# Altium integrated library PassiveComponents.IntLib: 18 symbols
Pins are listed as number, name and electrical type; pins without a type are passive.

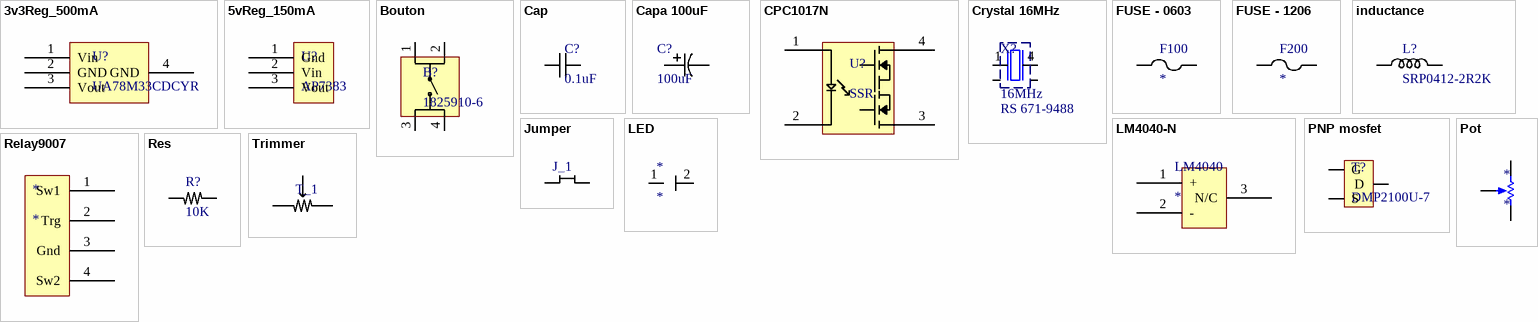
[diagram p0: symbols 3v3Reg_500mA to Trimmer]

## 3v3Reg_500mA
designator U?, comment UA78M33CDCYR
3.3V lin regulator / 500mA / UA78M33CDCYR
footprint SOT223-4
pins: 1 Vin, 2 GND, 3 Vout, 4 GND

## 5vReg_150mA
designator U?, comment AP7383
5V lin Regulator / 150mA / AP7383
footprint sot89-3
pins: 1 Gnd, 2 Vin, 3 Vout

## Bouton
designator B?, comment 1825910-6
Tactile Bouton / 1825910-6
footprint Bouton
pins: 1, 2, 3, 4

## Cap
designator C?, comment 0.1uF
footprint 0603-W (0603 - 1608)
footprint 1206
footprint 0805
pins: 1 Vin, 2 Vin

## Capa 100uF
designator C?, comment 100uF
100uF / Part number: 493-2203-1-ND; Manufacturer_Part_Number: UWT1V101MCL1GS; Vendor: Nichicon; Built_By: EMA_UL_Team; SourceLibrary: Nichicon_2011-10-21; Type: DEV; Copyright: Copyright (C) 2018 Accelerated Designs. All rights reserved; RefDes: RefDes
footprint 6.3x7.7_capa_smt
footprint 8mm diametre cap
pins: 1, 2

## CPC1017N
designator U?, comment SSR
Solid State SPST-NO _1 Form A_ 4-SOP _0.150, 3.81mm_; MP: CPC1017N; MF: IXYS Integrated; Package: SOP-4 IXYS; SnapEDA_Link: https://www.snapeda.com/parts/CPC1017N/IXYS%20Integrated%20Circuits%20Division/view-part/345722/?ref=snap; Value: *; Availability: Unavailable; Price: None
footprint 4-pin SOP
pins: 1 +CONTROL, 2 -CONTROL, 3 LOAD1, 4 LOAD2

## Crystal 16MHz
designator X?, comment value 16MHz  RS: RS 671-9488  (hidden comment: AB-16.000MALE-T)
AB-16.000MALE-T / # digikey : 887-1708-1-ND / 12pF; Manufacturer: Aker; Manufacturer Part #: C5S-16.000-12-3030-X; Frequency Stability: +/-30ppm; Creator: R Kanjee; Supplier: RS; RS Stock Nr.: 671-9488; HelpURL: http://za.rs-online.com/web/p/crystal-units/6719488/; Package: 3.2x5mm SMD; Load Capacitance: 12pF
footprint 4-SMD no lead 5mm-3.2mm
pins: 1, 2 Gnd (power), 3 Gnd (power), 4

## FUSE - 0603
designator F100
footprint 0603-W - F (0603 - 1608)
pins: 1 Vin, 2 Vout

## FUSE - 1206
designator F200
footprint 1206-W - F - duplicate (0603 - 1608)
pins: 1 Vin, 2 Vout

## inductance
designator L?, comment SRP0412-2R2K
part number SRP0412-2R2K / 2.2uH
footprint 4.1X4.2mm_inductor
footprint 9.5X8.5mm_inductor
pins: 1, 2

## Jumper
designator J_1  (value not drawn)
footprint 0603-N (0603mil - 1608mm)
pins: 1 Vin, 2 Vin

## LED
designator *
footprint LED
pins: 1 Vin, 2 Vout

## LM4040-N
designator LM4040
Precision shunt voltage reference
footprint SOT-23 (DBZ) 3
pins: 1 +, 2 -, 3 N/C

## PNP mosfet
designator T?, comment DMP2100U-7
P-Channel mosfet / DMP2100U-7
footprint SOT-23 (DBZ) 3
pins: 1 G, 2 S, 3 D

## Pot
designator *
footprint 3-Pos_Rect_Pot (Thru-Hole; 3 Leads)
pins: 1, 2, 3

## Relay9007
designator *
footprint Relay
footprint COTO_9007
pins: 1 Sw1, 2 Trg, 3 Gnd, 4 Sw2

## Res
designator R?, comment 10K
footprint 0603-W (0603 - 1608)
footprint 0805
pins: 1 Vin, 2 Vout

## Trimmer
designator T_1  (value not drawn)
footprint Trimmer (surface_mount)
pins: 1, 2, 3